# Altium footprint library ToponLib.PcbLib: 48 footprints (part 1 of 3)
Each footprint in its own frame and in the unit in brackets; x right, y up, seen from the top. Pads: shape width x height; smd on the part's side, far side on the other; paste and mask are expansions set on the pad; w line width, h text height; cw(c..) or ccw(c..) is an arc to the next point about the centre after c.
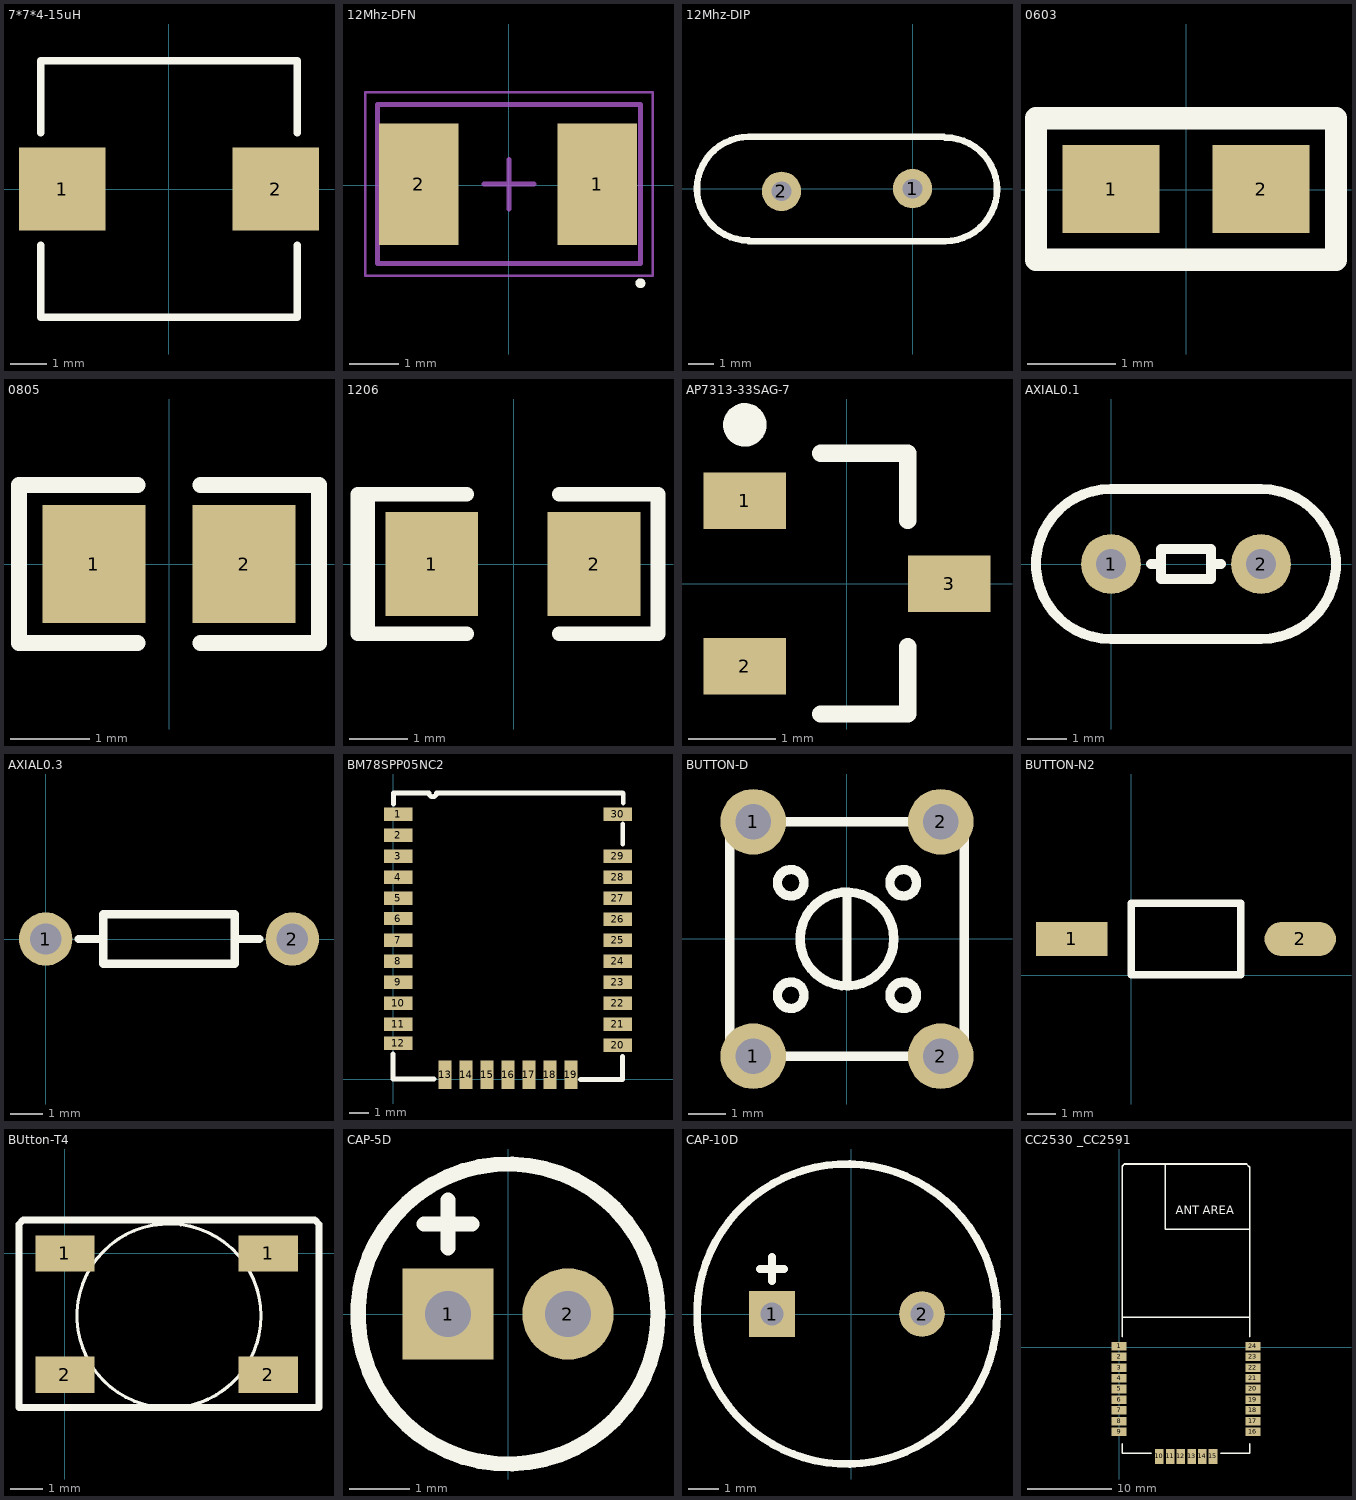
[diagram p0: the footprints below, top view; thin cyan lines are the x and y axes]

## 7*7*4-15uH [mm] "Precision Wire Wound Inductor, 2-Leads, Body 7.00x7.00mm, IPC Medium Density"
height 4
pads (2):
  rect 2.4x2.3 smd: 1(-2.95,0) 2(2.95,0)
Top Overlay:
  lines w0.2: -3.55,-1.55 -3.55,-3.55 3.55,-3.55 3.55,-1.55 ; -3.55,1.55 -3.55,3.55 3.55,3.55 3.55,1.55

## 12Mhz-DFN [mm]
pads (2):
  rect 1.6x2.45 smd: 1(1.78,0.025) 2(-1.82,0.025)
Top Overlay:
  circle w0.1: c2.65,-1.975 r0.05
Mechanical 13:
  lines w0.1: -2.65,-1.575 2.65,-1.575 2.65,1.625 -2.65,1.625 -2.65,-1.575
Mechanical 15:
  lines w0.05: -2.9,-1.825 2.9,-1.825 2.9,1.875 -2.9,1.875 -2.9,-1.825
  lines w0.1: -0.5,0.025 0.5,0.025 ; 0,-0.475 0,0.525
3D body: height 0.45, standoff 0, extent -2.65,-1.575 2.65,1.625

## 12Mhz-DIP [mil]
pads (2):
  round 60 hole 30: 1(0,0) 2(-200,-4)
Top Overlay:
  lines w10: -250,-80 50,-80 ccw(c50,-1) 50,78 ; -250,-79 cw(c-250,0) -250,79 -200,79 0,79 48,79

## 0603 [mm]
pads (2):
  rect 1.1x1 smd: 1(-0.85,0.01) 2(0.85,0.01)
Top Overlay:
  lines w0.254: -1.7,-0.79 1.7,-0.79 1.7,0.81 -1.7,0.81 -1.7,-0.79

## 0805 [mm]
pads (2):
  rect 1.3x1.5 smd: 1(-0.95,0) 2(0.95,0)
Top Overlay:
  lines w0.203: -0.4,-1 -1.9,-1 -1.9,1 -0.4,1 ; 0.4,-1 1.9,-1 1.9,1 0.4,1

## 1206 [mm]
pads (2):
  rect 1.6x1.8 smd: 1(-1.41,0) 2(1.39,0)
Top Overlay:
  lines w0.254: -2.51,-1.2 -2.51,1.2 ; -0.81,-1.2 -2.68,-1.2 -2.68,1.2 -0.81,1.2 ; 0.79,-1.2 2.49,-1.2 2.49,1.2 0.79,1.2

## AP7313-33SAG-7 [mm] "SOT23, 3-Leads, Body 2.90x2.40mm, Pitch 0.95mm, IPC Medium Density"
height 1.1
pads (3):
  rect 0.95x0.65 smd: 1(-1.175,0.95) 2(-1.175,-0.95) 3(1.175,0)
Top Overlay:
  circle w0.25: c-1.175,1.825 r0.125
  lines w0.2: -0.3,-1.5 0.7,-1.5 0.7,-0.725 ; -0.3,1.5 0.7,1.5 0.7,0.725

## AXIAL0.1 [mil]
pads (2):
  round 60 hole 30: 1(0,0) 2(150,0)
Top Overlay:
  lines w10: 40,0 45,0 ; 105,0 110,0 ; 0,-75 cw(c0,0) 0,75 150,75 cw(c150,0) 150,-75 0,-75 ; 50,-15 100,-15 100,15 50,15 50,-15

## AXIAL0.3 [mil]
pads (2):
  round 65 hole 38: 1(0,0) 2(300,0)
Top Overlay:
  lines w10: 40,0 70,0 ; 230,0 260,0 ; 70,0 70,30 230,30 230,-30 70,-30 70,0

## BM78SPP05NC2 [mm]
pads (30):
  rect 1.5x0.7 smd: 1(0.25,13.9) 2(0.25,12.8) 3(0.25,11.7) 4(0.25,10.6) 5(0.25,9.5) 6(0.25,8.43) 7(0.25,7.3) 8(0.25,6.2) 9(0.25,5.1) 10(0.25,4) 11(0.25,2.9) 12(0.25,1.9) 20(11.75,1.8) 21(11.75,2.9) 22(11.75,4) 23(11.75,5.1) 24(11.75,6.2) 25(11.75,7.3) 26(11.75,8.4) 27(11.75,9.5) 28(11.75,10.6) 29(11.75,11.7) 30(11.75,13.9)
  rect 0.7x1.5 smd: 13(2.7,0.25) 14(3.8,0.25) 15(4.9,0.25) 16(6,0.25) 17(7.1,0.25) 18(8.2,0.25) 19(9.3,0.25)
Top Overlay:
  lines w0.254: -0.025,1.346 -0.025,0.025 2.134,0.025 ; 0,14.427 0,15.011 1.854,15.011 ccw(c2.057,15.011) 2.261,15.011 12.014,15.011 12.04,14.986 12.04,14.478 ; 9.804,0 12.014,0 11.989,0.025 11.989,1.219 ; 12.014,12.319 12.014,13.386

## BUTTON-D [mil]
pads (4):
  round 70 hole 38: 1(-100,-125) 1(-100,125) 2(100,-125) 2(100,125)
Top Overlay:
  circle w10: c0,0 r50
  circle w10: c-60,-60 r14.14
  circle w10: c60,-60 r14.14
  circle w10: c60,60 r14.14
  circle w10: c-60,60 r14.14
  lines w10: 0,-50 0,50 ; -125,-125 -125,125 125,125 125,-125 -125,-125

## BUTTON-N2 [mm]
pads (2):
  rect 2.5x1.2 smd: 1(-2.083,1.27)
  oval 2.5x1.2 smd: 2(5.917,1.27)
Top Overlay:
  lines w0.254: 0.002,0.02 0.002,2.52 1.292,2.52 2.542,2.52 3.832,2.52 3.832,0.02 0.002,0.02

## BUtton-T4 [mm] "4*4*1.5"
pads (4):
  rect 1.8x1.1 smd: 1(0,0) 1(6.2,0) 2(0,-3.7) 2(6.2,-3.7)
Top Overlay:
  circle w0.1: c3.175,-1.905 r2.806
  lines w0.203: -1.397,-4.699 -1.397,0.889 -1.27,1.016 7.62,1.016 7.747,0.889 7.747,-4.699 -1.397,-4.699

## CAP-5D [mil]
pads (2):
  rect 60x60 hole 30: 1(-39.37,0)
  round 60 hole 30: 2(39.37,0)
Top Overlay:
  circle w10: c0,0 r98.43
  lines w10: -55.12,59.06 -23.62,59.06 ; -39.37,43.31 -39.37,74.8

## CAP-10D [mil]
pads (2):
  rect 60x60 hole 30: 1(-104.21,0.39)
  round 60 hole 30: 2(92.64,0.39)
Top Overlay:
  circle w10: c-5.79,0.39 r196.85
  lines w10: -119.96,59.45 -88.46,59.45 ; -104.21,43.7 -104.21,75.2

## CC2530 _CC2591 [mil]
pads (24):
  rect 70x40 smd: 1(0,5) 2(-0.04,-44.88) 3(-0.04,-94.88) 4(-0.04,-144.88) 5(-0.04,-194.88) 6(-0.04,-244.88) 7(-0.04,-294.88) 8(-0.04,-344.88) 9(-0.04,-394.88) 16(624.96,-394.88) 17(624.96,-344.88) 18(624.96,-294.88) 19(624.96,-244.88) 20(624.96,-194.88) 21(624.96,-144.88) 22(624.96,-94.88) 23(624.96,-44.88) 24(624.96,5.12)
  rect 40x70 smd: 10(188.42,-509.88) 11(238.42,-509.88) 12(288.42,-509.88) 13(338.42,-509.88) 14(388.42,-509.88) 15(438.42,-509.88)
Top Overlay:
  lines w8: 15,-450 15,-495 150,-495 ; 15,50 15,730 15,845 25,855 595,855 610,840 610,730 610,50 ; 15,140 610,140 ; 215,855 215,730 215,550 610,550 ; 475,-495 610,-495 610,-450
  text "ANT AREA" at 265,620 h40
Top Paste:
  lines w3.94: 15,845 20,850 ; 600,850 610,840